# Altium integrated library ON Semi Signal Management Signal Switches.IntLib: 212 symbols (part 2 of 6)
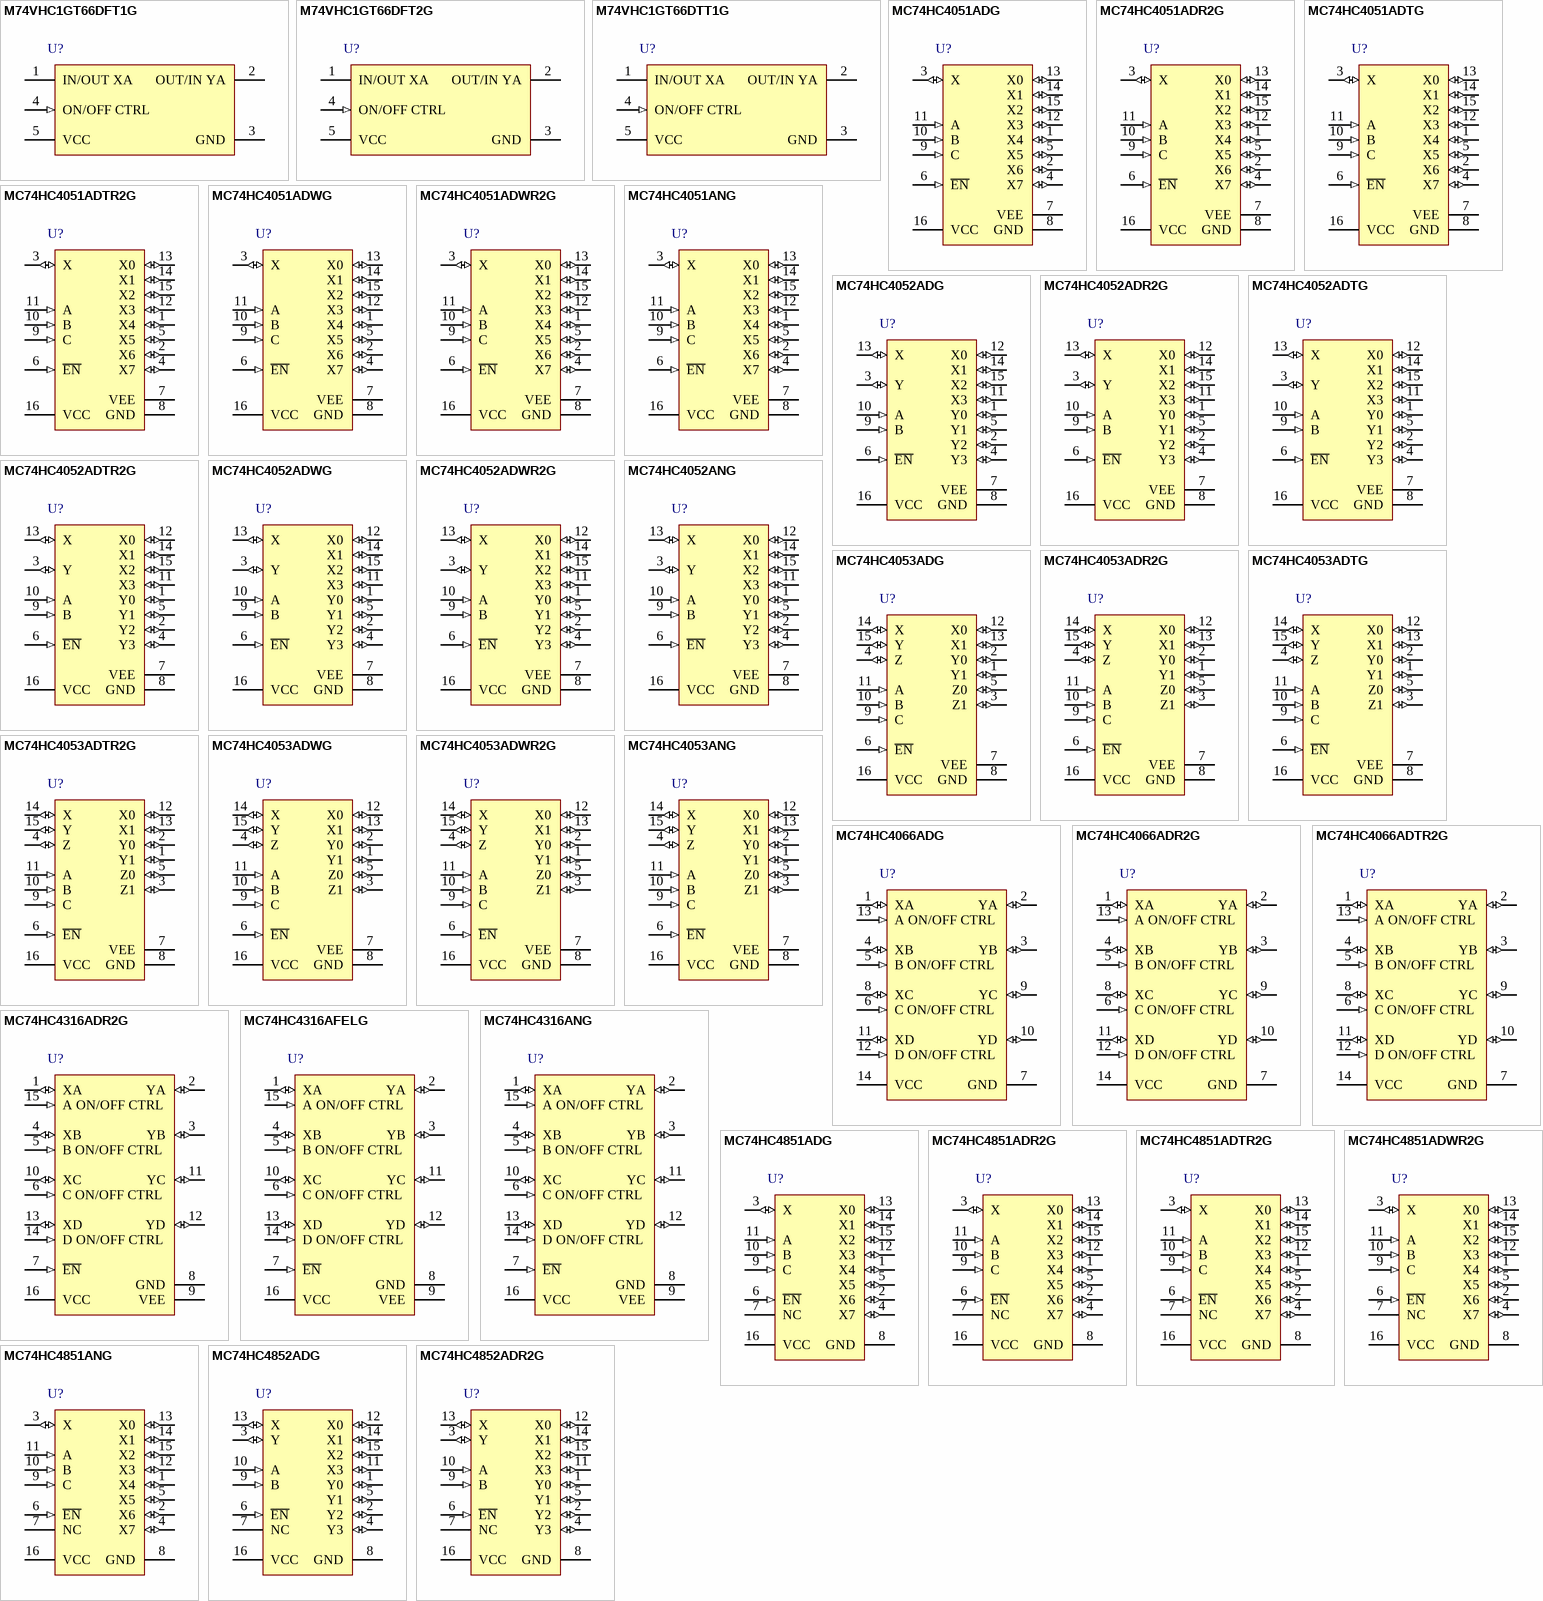
[diagram p7: symbols M74VHC1GT66DFT1G to MC74HC4852ADR2G]

## MC74HC4852ADG
designator U?
Analog Multiplexer / Demultiplexer with Injection Current Effect Control, Automotive Customized, 2 to 6 V, -55 to 125 degC, 16-Pin SOIC, Pb-Free, Tube; Manufacturer: On Semiconductor; PartNumber: MC74HC4852ADG; Icc Max (uA): 40; VCC Max (V): 6; VCC Min (V): 2; DatasheetVersion: Rev. 14; PackageVersion: Rev. K, 12/2006; PackageReference: SOIC-16-751B-05; PackageDescription: 16-Pin Small Outline Integrated Circuit, Body 9.9 x 3.9 mm, Pitch 1.27 mm; Supplier 1: Digi-Key; Supplier Part Number 1: MC74HC4852ADG-ND; Supplier 2: Newark; Supplier Part Number 2: 26K4243; Supplier 3: Mouser; Supplier Part Number 3: 863-MC74HC4852ADG; Packing: Tube; RoHS: TRUE; Mounting Technology: Surface Mount; ComponentLink1Description: Manufacturer URL; ComponentLink1URL: http://www.onsemi.com/; ComponentLink2Description: Datasheet; ComponentLink2URL: http://www.onsemi.com/pub_link/Collateral/MC74HC4851A-D.PDF; ComponentLink3Description: Package Specification; ComponentLink3URL: http://www.onsemi.com/pub_link/Collateral/751B-05.PDF
footprint ONSC-SOIC-16-751B-05_V (SOIC, 16-Leads, Body 10x4mm, Pitch 1.27mm)
pins: 1 Y0 (io), 2 Y2 (io), 3 Y (io), 4 Y3 (io), 5 Y1 (io), 6 ~{EN} (in), 7 NC, 8 GND (power), 9 B (in), 10 A (in), 11 X3 (io), 12 X0 (io), 13 X (io), 14 X1 (io), 15 X2 (io), 16 VCC (power)

## MC74HC4852ADR2G
designator U?
Analog Multiplexer / Demultiplexer with Injection Current Effect Control, Automotive Customized, 2 to 6 V, -55 to 125 degC, 16-Pin SOIC, Pb-Free, Tape and Reel; Manufacturer: On Semiconductor; PartNumber: MC74HC4852ADR2G; Icc Max (uA): 40; VCC Max (V): 6; VCC Min (V): 2; DatasheetVersion: Rev. 14; PackageVersion: Rev. K, 12/2006; PackageReference: SOIC-16-751B-05; PackageDescription: 16-Pin Small Outline Integrated Circuit, Body 9.9 x 3.9 mm, Pitch 1.27 mm; Supplier 1: Digi-Key; Supplier Part Number 1: MC74HC4852ADR2GOSTR-ND; Supplier 2: Digi-Key; Supplier Part Number 2: MC74HC4852ADR2GOSCT-ND; Supplier 3: Digi-Key; Supplier Part Number 3: MC74HC4852ADR2GOSDKR-ND; Supplier 4: Mouser; Supplier Part Number 4: 863-MC74HC4852ADR2G; Packing: Tape and Reel; RoHS: TRUE; Mounting Technology: Surface Mount; ComponentLink1Description: Manufacturer URL; ComponentLink1URL: http://www.onsemi.com/; ComponentLink2Description: Datasheet; ComponentLink2URL: http://www.onsemi.com/pub_link/Collateral/MC74HC4851A-D.PDF; ComponentLink3Description: Package Specification; ComponentLink3URL: http://www.onsemi.com/pub_link/Collateral/751B-05.PDF
footprint ONSC-SOIC-16-751B-05_V (SOIC, 16-Leads, Body 10x4mm, Pitch 1.27mm)
pins: 1 Y0 (io), 2 Y2 (io), 3 Y (io), 4 Y3 (io), 5 Y1 (io), 6 ~{EN} (in), 7 NC, 8 GND (power), 9 B (in), 10 A (in), 11 X3 (io), 12 X0 (io), 13 X (io), 14 X1 (io), 15 X2 (io), 16 VCC (power)

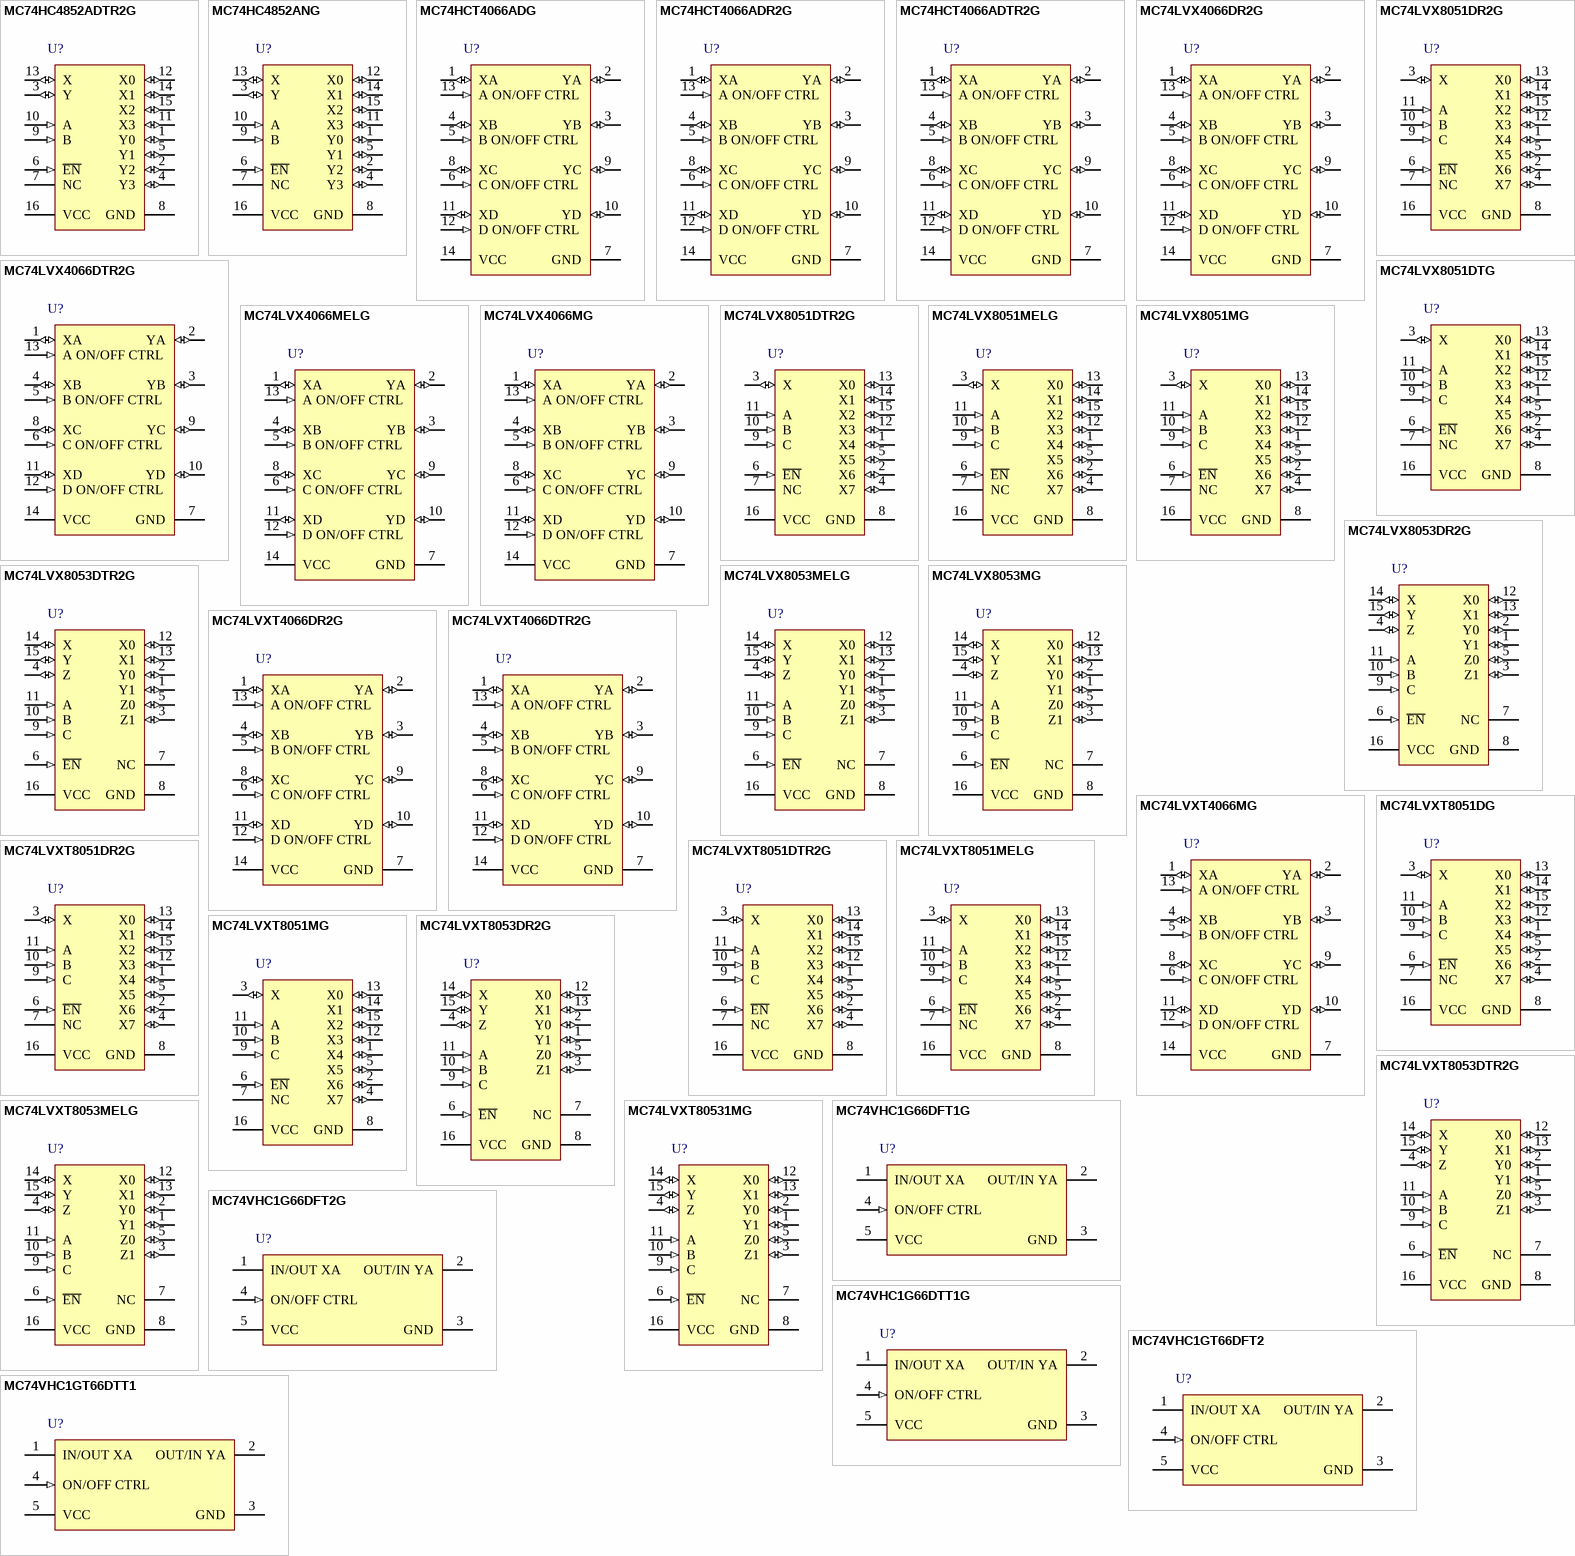
[diagram p1: symbols MC74HC4852ADTR2G to MC74VHC1GT66DTT1]

## MC74HC4852ADTR2G
designator U?
Analog Multiplexer / Demultiplexer with Injection Current Effect Control, Automotive Customized, 2 to 6 V, -55 to 125 degC, 16-Pin TSSOP, Pb-Free, Tape and Reel; Manufacturer: On Semiconductor; PartNumber: MC74HC4852ADTR2G; Icc Max (uA): 40; VCC Max (V): 6; VCC Min (V): 2; DatasheetVersion: Rev. 14; PackageVersion: Rev. B, 10/2006; PackageReference: TSSOP-16-948F-01; PackageDescription: 16-Pin Small Outline Package, Body 5 x 4.4 mm, Pitch 0.65 mm; Supplier 1: Digi-Key; Supplier Part Number 1: MC74HC4852ADTR2GOSTR-ND; Supplier 2: Digi-Key; Supplier Part Number 2: MC74HC4852ADTR2GOSCT-ND; Supplier 3: Mouser; Supplier Part Number 3: 863-MC74HC4852ADTR2G; Packing: Tape and Reel; RoHS: TRUE; Mounting Technology: Surface Mount; ComponentLink1Description: Manufacturer URL; ComponentLink1URL: http://www.onsemi.com/; ComponentLink2Description: Datasheet; ComponentLink2URL: http://www.onsemi.com/pub_link/Collateral/MC74HC4851A-D.PDF; ComponentLink3Description: Package Specification; ComponentLink3URL: http://www.onsemi.com/pub_link/Collateral/948F-01.PDF
footprint ONSC-TSSOP-16-948F-01_V (SOP, 16-Leads, Body 5.1x4.5mm, Pitch 0.65mm)
pins: 1 Y0 (io), 2 Y2 (io), 3 Y (io), 4 Y3 (io), 5 Y1 (io), 6 ~{EN} (in), 7 NC, 8 GND (power), 9 B (in), 10 A (in), 11 X3 (io), 12 X0 (io), 13 X (io), 14 X1 (io), 15 X2 (io), 16 VCC (power)

## MC74HC4852ANG
designator U?
Analog Multiplexer / Demultiplexer with Injection Current Effect Control, Automotive Customized, 2 to 6 V, -55 to 125 degC, 16-Pin PDIP, Pb-Free, Tube; Manufacturer: On Semiconductor; PartNumber: MC74HC4852ANG; Icc Max (uA): 40; VCC Max (V): 6; VCC Min (V): 2; DatasheetVersion: Rev. 14; PackageVersion: Rev. T, 05/2004; PackageReference: PDIP-16-648-08_T; PackageDescription: 16-Pin Plastic Dual-In Line Package, Body 19.175 x 6.6 mm, Pitch 2.54 mm; Supplier 1: Digi-Key; Supplier Part Number 1: MC74HC4852ANG-ND; Supplier 2: Mouser; Supplier Part Number 2: 863-MC74HC4852ANG; Packing: Tube; RoHS: TRUE; Mounting Technology: Through Hole; ComponentLink1Description: Manufacturer URL; ComponentLink1URL: http://www.onsemi.com/; ComponentLink2Description: Datasheet; ComponentLink2URL: http://www.onsemi.com/pub_link/Collateral/MC74HC4851A-D.PDF; ComponentLink3Description: Package Specification; ComponentLink3URL: http://www.onsemi.com/pub_link/Collateral/MC14028B-D.PDF
footprint ONSC-PDIP-16-648-08_T (DIP, 16-Leads, Body 19.55x6.85mm, Pitch 2.54mm)
pins: 1 Y0 (io), 2 Y2 (io), 3 Y (io), 4 Y3 (io), 5 Y1 (io), 6 ~{EN} (in), 7 NC, 8 GND (power), 9 B (in), 10 A (in), 11 X3 (io), 12 X0 (io), 13 X (io), 14 X1 (io), 15 X2 (io), 16 VCC (power)

## MC74HCT4066ADG
designator U?
Quad Analog Switch / Multiplexer / Demultiplexer with LSTTL Compatible Inputs, High-Performance Silicon-Gate CMOS, 4.5 to 5.5 V, -55 to 125 degC, 14-Pin SOIC, Pb-Free, Tube; Manufacturer: On Semiconductor; PartNumber: MC74HCT4066ADG; Icc Max (uA): 40; VCC Max (V): 5.5; VCC Min (V): 4.5; DatasheetVersion: Rev. 1; PackageVersion: Rev. H; PackageReference: SOIC-14-751A-03_H; PackageDescription: 14-Pin Small Outline Integrated Circuit, Body 8.65 x 3.9 mm, Pitch 1.27 mm; Supplier 1: Digi-Key; Supplier Part Number 1: MC74HCT4066ADG-ND; Supplier 2: Mouser; Supplier Part Number 2: 863-MC74HCT4066ADG; Packing: Tube; RoHS: TRUE; Mounting Technology: Surface Mount; ComponentLink1Description: Manufacturer URL; ComponentLink1URL: http://www.onsemi.com/; ComponentLink2Description: Datasheet; ComponentLink2URL: http://www.onsemi.cn/pub_link/Collateral/MC74HCT4066A-D.PDF; ComponentLink3Description: Package Specification; ComponentLink3URL: http://www.onsemi.com/pub_link/Collateral/MC74AC74-D.PDF
footprint ONSC-SOIC-14-751A-03_H_V (SOIC, 14-Leads, Body 8.75x4mm, Pitch 1.27mm)
pins: 1 XA (io), 2 YA (io), 3 YB (io), 4 XB (io), 5 B ON/OFF CTRL (in), 6 C ON/OFF CTRL (in), 7 GND (power), 8 XC (io), 9 YC (io), 10 YD (io), 11 XD (io), 12 D ON/OFF CTRL (in), 13 A ON/OFF CTRL (in), 14 VCC (power)

## MC74HCT4066ADR2G
designator U?
Quad Analog Switch / Multiplexer / Demultiplexer with LSTTL Compatible Inputs, High-Performance Silicon-Gate CMOS, 4.5 to 5.5 V, -55 to 125 degC, 14-Pin SOIC, Pb-Free, Tape and Reel; Manufacturer: On Semiconductor; PartNumber: MC74HCT4066ADR2G; Icc Max (uA): 40; VCC Max (V): 5.5; VCC Min (V): 4.5; DatasheetVersion: Rev. 1; PackageVersion: Rev. H; PackageReference: SOIC-14-751A-03_H; PackageDescription: 14-Pin Small Outline Integrated Circuit, Body 8.65 x 3.9 mm, Pitch 1.27 mm; Supplier 1: Digi-Key; Supplier Part Number 1: MC74HCT4066ADR2G-ND; Supplier 2: Mouser; Supplier Part Number 2: 863-MC74HCT4066ADR2G; Packing: Tape and Reel; RoHS: TRUE; Mounting Technology: Surface Mount; ComponentLink1Description: Manufacturer URL; ComponentLink1URL: http://www.onsemi.com/; ComponentLink2Description: Datasheet; ComponentLink2URL: http://www.onsemi.cn/pub_link/Collateral/MC74HCT4066A-D.PDF; ComponentLink3Description: Package Specification; ComponentLink3URL: http://www.onsemi.com/pub_link/Collateral/MC74AC74-D.PDF
footprint ONSC-SOIC-14-751A-03_H_V (SOIC, 14-Leads, Body 8.75x4mm, Pitch 1.27mm)
pins: 1 XA (io), 2 YA (io), 3 YB (io), 4 XB (io), 5 B ON/OFF CTRL (in), 6 C ON/OFF CTRL (in), 7 GND (power), 8 XC (io), 9 YC (io), 10 YD (io), 11 XD (io), 12 D ON/OFF CTRL (in), 13 A ON/OFF CTRL (in), 14 VCC (power)

## MC74HCT4066ADTR2G
designator U?
Quad Analog Switch / Multiplexer / Demultiplexer with LSTTL Compatible Inputs, High-Performance Silicon-Gate CMOS, 4.5 to 5.5 V, -55 to 125 degC, 14-Pin TSSOP, Pb-Free, Tape and Reel; Manufacturer: On Semiconductor; PartNumber: MC74HCT4066ADTR2G; Icc Max (uA): 40; VCC Max (V): 5.5; VCC Min (V): 4.5; DatasheetVersion: Rev. 1; PackageVersion: Rev. B, 10/2006; PackageReference: TSSOP-14-948G-01; PackageDescription: 14-Pin Small Outline Package, Body 5 x 4.4 mm, Pitch 0.65 mm; Packing: Tape and Reel; RoHS: TRUE; Mounting Technology: Surface Mount; ComponentLink1Description: Manufacturer URL; ComponentLink1URL: http://www.onsemi.com/; ComponentLink2Description: Datasheet; ComponentLink2URL: http://www.onsemi.cn/pub_link/Collateral/MC74HCT4066A-D.PDF; ComponentLink3Description: Package Specification; ComponentLink3URL: http://www.onsemi.com/pub_link/Collateral/948G-01.PDF
footprint ONSC-TSSOP-14-948G-01_V (SOP, 14-Leads, Body 5.1x4.5mm, Pitch 0.65mm)
pins: 1 XA (io), 2 YA (io), 3 YB (io), 4 XB (io), 5 B ON/OFF CTRL (in), 6 C ON/OFF CTRL (in), 7 GND (power), 8 XC (io), 9 YC (io), 10 YD (io), 11 XD (io), 12 D ON/OFF CTRL (in), 13 A ON/OFF CTRL (in), 14 VCC (power)

## MC74LVX4066DR2G
designator U?
Quad Analog Switch / Multiplexer / Demultiplexer, High-Performance Silicon-Gate CMOS, 2 to 6 V, -55 to 85 degC, 14-Pin SOIC, Pb-Free, Tape and Reel; Manufacturer: On Semiconductor; PartNumber: MC74LVX4066DR2G; Icc Max (uA): 160; VCC Max (V): 6; VCC Min (V): 2; DatasheetVersion: Rev. 5; PackageVersion: Rev. H; PackageReference: SOIC-14-751A-03_H; PackageDescription: 14-Pin Small Outline Integrated Circuit, Body 8.65 x 3.9 mm, Pitch 1.27 mm; Supplier 1: Digi-Key; Supplier Part Number 1: MC74LVX4066DR2GOSTR-ND; Supplier 2: Digi-Key; Supplier Part Number 2: MC74LVX4066DR2GOSCT-ND; Supplier 3: Newark; Supplier Part Number 3: 45J1372; Supplier 4: Mouser; Supplier Part Number 4: 863-MC74LVX4066DR2G; Packing: Tape and Reel; RoHS: TRUE; Mounting Technology: Surface Mount; ComponentLink1Description: Manufacturer URL; ComponentLink1URL: http://www.onsemi.com/; ComponentLink2Description: Datasheet; ComponentLink2URL: http://www.onsemi.com/pub_link/Collateral/MC74LVX4066-D.PDF; ComponentLink3Description: Package Specification; ComponentLink3URL: http://www.onsemi.com/pub_link/Collateral/MC74AC74-D.PDF
footprint ONSC-SOIC-14-751A-03_H_V (SOIC, 14-Leads, Body 8.75x4mm, Pitch 1.27mm)
pins: 1 XA (io), 2 YA (io), 3 YB (io), 4 XB (io), 5 B ON/OFF CTRL (in), 6 C ON/OFF CTRL (in), 7 GND (power), 8 XC (io), 9 YC (io), 10 YD (io), 11 XD (io), 12 D ON/OFF CTRL (in), 13 A ON/OFF CTRL (in), 14 VCC (power)

## MC74LVX4066DTR2G
designator U?
Quad Analog Switch / Multiplexer / Demultiplexer, High-Performance Silicon-Gate CMOS, 2 to 6 V, -55 to 85 degC, 14-Pin TSSOP, Pb-Free, Tape and Reel; Manufacturer: On Semiconductor; PartNumber: MC74LVX4066DTR2G; Icc Max (uA): 160; VCC Max (V): 6; VCC Min (V): 2; DatasheetVersion: Rev. 5; PackageVersion: Rev. B, 10/2006; PackageReference: TSSOP-14-948G-01; PackageDescription: 14-Pin Small Outline Package, Body 5 x 4.4 mm, Pitch 0.65 mm; Supplier 1: Digi-Key; Supplier Part Number 1: MC74LVX4066DTR2GOSTR-ND; Supplier 2: Digi-Key; Supplier Part Number 2: MC74LVX4066DTR2GOSCT-ND; Supplier 3: Newark; Supplier Part Number 3: 42K1041; Supplier 4: Mouser; Supplier Part Number 4: 863-MC74LVX4066DTR2G; Packing: Tape and Reel; RoHS: TRUE; Mounting Technology: Surface Mount; ComponentLink1Description: Manufacturer URL; ComponentLink1URL: http://www.onsemi.com/; ComponentLink2Description: Datasheet; ComponentLink2URL: http://www.onsemi.com/pub_link/Collateral/MC74LVX4066-D.PDF; ComponentLink3Description: Package Specification; ComponentLink3URL: http://www.onsemi.com/pub_link/Collateral/948G-01.PDF
footprint ONSC-TSSOP-14-948G-01_V (SOP, 14-Leads, Body 5.1x4.5mm, Pitch 0.65mm)
pins: 1 XA (io), 2 YA (io), 3 YB (io), 4 XB (io), 5 B ON/OFF CTRL (in), 6 C ON/OFF CTRL (in), 7 GND (power), 8 XC (io), 9 YC (io), 10 YD (io), 11 XD (io), 12 D ON/OFF CTRL (in), 13 A ON/OFF CTRL (in), 14 VCC (power)

## MC74LVX4066MELG
designator U?
Quad Analog Switch / Multiplexer / Demultiplexer, High-Performance Silicon-Gate CMOS, 2 to 6 V, -55 to 85 degC, 14-Pin SOEIAJ, Pb-Free, Tape and Reel; Manufacturer: On Semiconductor; PartNumber: MC74LVX4066MELG; Icc Max (uA): 160; VCC Max (V): 6; VCC Min (V): 2; DatasheetVersion: Rev. 5; PackageVersion: Rev. B, 02/2008; PackageReference: SOEIAJ-14-965-01; PackageDescription: 14-Pin Small Outline Integrated Circuit, Body 10.2 x 5.275 mm, Pitch 1.27 mm; Supplier 1: Digi-Key; Supplier Part Number 1: MC74LVX4066MELGOSTR-ND; Supplier 2: Digi-Key; Supplier Part Number 2: MC74LVX4066MELGOSCT-ND; Supplier 3: Mouser; Supplier Part Number 3: 863-MC74LVX4066MELG; Packing: Tape and Reel; RoHS: TRUE; Mounting Technology: Surface Mount; ComponentLink1Description: Manufacturer URL; ComponentLink1URL: http://www.onsemi.com/; ComponentLink2Description: Datasheet; ComponentLink2URL: http://www.onsemi.com/pub_link/Collateral/MC74LVX4066-D.PDF; ComponentLink3Description: Package Specification; ComponentLink3URL: http://www.onsemi.com/pub_link/Collateral/965-01.PDF
footprint ONSC-SOEIAJ-14-965-01_N (SOIC, 14-Leads, Body 10.5x5.45mm, Pitch 1.27mm, IPC Medium Density)
footprint ONSC-SOEIAJ-14-965-01_L (SOIC, 14-Leads, Body 10.5x5.45mm, Pitch 1.27mm, IPC High Density)
footprint ONSC-SOEIAJ-14-965-01_M (SOIC, 14-Leads, Body 10.5x5.45mm, Pitch 1.27mm, IPC Low Density)
pins: 1 XA (io), 2 YA (io), 3 YB (io), 4 XB (io), 5 B ON/OFF CTRL (in), 6 C ON/OFF CTRL (in), 7 GND (power), 8 XC (io), 9 YC (io), 10 YD (io), 11 XD (io), 12 D ON/OFF CTRL (in), 13 A ON/OFF CTRL (in), 14 VCC (power)

## MC74LVX4066MG
designator U?
Quad Analog Switch / Multiplexer / Demultiplexer, High-Performance Silicon-Gate CMOS, 2 to 6 V, -55 to 85 degC, 14-Pin SOEIAJ, Pb-Free, Tube; Manufacturer: On Semiconductor; PartNumber: MC74LVX4066MG; Icc Max (uA): 160; VCC Max (V): 6; VCC Min (V): 2; DatasheetVersion: Rev. 5; PackageVersion: Rev. B, 02/2008; PackageReference: SOEIAJ-14-965-01; PackageDescription: 14-Pin Small Outline Integrated Circuit, Body 10.2 x 5.275 mm, Pitch 1.27 mm; Supplier 1: Digi-Key; Supplier Part Number 1: MC74LVX4066MG-ND; Supplier 2: Mouser; Supplier Part Number 2: 863-MC74LVX4066MG; Packing: Tube; RoHS: TRUE; Mounting Technology: Surface Mount; ComponentLink1Description: Manufacturer URL; ComponentLink1URL: http://www.onsemi.com/; ComponentLink2Description: Datasheet; ComponentLink2URL: http://www.onsemi.com/pub_link/Collateral/MC74LVX4066-D.PDF; ComponentLink3Description: Package Specification; ComponentLink3URL: http://www.onsemi.com/pub_link/Collateral/965-01.PDF
footprint ONSC-SOEIAJ-14-965-01_N (SOIC, 14-Leads, Body 10.5x5.45mm, Pitch 1.27mm, IPC Medium Density)
footprint ONSC-SOEIAJ-14-965-01_L (SOIC, 14-Leads, Body 10.5x5.45mm, Pitch 1.27mm, IPC High Density)
footprint ONSC-SOEIAJ-14-965-01_M (SOIC, 14-Leads, Body 10.5x5.45mm, Pitch 1.27mm, IPC Low Density)
pins: 1 XA (io), 2 YA (io), 3 YB (io), 4 XB (io), 5 B ON/OFF CTRL (in), 6 C ON/OFF CTRL (in), 7 GND (power), 8 XC (io), 9 YC (io), 10 YD (io), 11 XD (io), 12 D ON/OFF CTRL (in), 13 A ON/OFF CTRL (in), 14 VCC (power)

## MC74LVX8051DR2G
designator U?
Analog Multiplexer / Demultiplexer, High-Performance Silicon-Gate CMOS, 2.5 to 6 V, -55 to 85 degC, 16-Pin SOIC, Pb-Free, Tape and Reel; Manufacturer: On Semiconductor; PartNumber: MC74LVX8051DR2G; Icc Max (uA): 160; VCC Max (V): 6; VCC Min (V): 2.5; DatasheetVersion: Rev. 5; PackageVersion: Rev. K, 12/2006; PackageReference: SOIC-16-751B-05; PackageDescription: 16-Pin Small Outline Integrated Circuit, Body 9.9 x 3.9 mm, Pitch 1.27 mm; Supplier 1: Digi-Key; Supplier Part Number 1: MC74LVX8051DR2G-ND; Supplier 2: Mouser; Supplier Part Number 2: 863-MC74LVX8051DR2G; Packing: Tape and Reel; RoHS: TRUE; Mounting Technology: Surface Mount; ComponentLink1Description: Manufacturer URL; ComponentLink1URL: http://www.onsemi.com/; ComponentLink2Description: Datasheet; ComponentLink2URL: http://www.onsemi.com/pub_link/Collateral/MC74LVX8051-D.PDF; ComponentLink3Description: Package Specification; ComponentLink3URL: http://www.onsemi.com/pub_link/Collateral/751B-05.PDF
footprint ONSC-SOIC-16-751B-05_V (SOIC, 16-Leads, Body 10x4mm, Pitch 1.27mm)
pins: 1 X4 (io), 2 X6 (io), 3 X (io), 4 X7 (io), 5 X5 (io), 6 ~{EN} (in), 7 NC, 8 GND (power), 9 C (in), 10 B (in), 11 A (in), 12 X3 (io), 13 X0 (io), 14 X1 (io), 15 X2 (io), 16 VCC (power)

## MC74LVX8051DTG
designator U?
Analog Multiplexer / Demultiplexer, High-Performance Silicon-Gate CMOS, 2.5 to 6 V, -55 to 85 degC, 16-Pin TSSOP, Pb-Free, Tube; Manufacturer: On Semiconductor; PartNumber: MC74LVX8051DTG; Icc Max (uA): 160; VCC Max (V): 6; VCC Min (V): 2.5; DatasheetVersion: Rev. 5; PackageVersion: Rev. B, 10/2006; PackageReference: TSSOP-16-948F-01; PackageDescription: 16-Pin Small Outline Package, Body 5 x 4.4 mm, Pitch 0.65 mm; Supplier 1: Digi-Key; Supplier Part Number 1: MC74LVX8051DTG-ND; Supplier 2: Mouser; Supplier Part Number 2: 863-MC74LVX8051DTG; Packing: Tube; RoHS: TRUE; Mounting Technology: Surface Mount; ComponentLink1Description: Manufacturer URL; ComponentLink1URL: http://www.onsemi.com/; ComponentLink2Description: Datasheet; ComponentLink2URL: http://www.onsemi.com/pub_link/Collateral/MC74LVX8051-D.PDF; ComponentLink3Description: Package Specification; ComponentLink3URL: http://www.onsemi.com/pub_link/Collateral/948F-01.PDF
footprint ONSC-TSSOP-16-948F-01_V (SOP, 16-Leads, Body 5.1x4.5mm, Pitch 0.65mm)
pins: 1 X4 (io), 2 X6 (io), 3 X (io), 4 X7 (io), 5 X5 (io), 6 ~{EN} (in), 7 NC, 8 GND (power), 9 C (in), 10 B (in), 11 A (in), 12 X3 (io), 13 X0 (io), 14 X1 (io), 15 X2 (io), 16 VCC (power)

## MC74LVX8051DTR2G
designator U?
Analog Multiplexer / Demultiplexer, High-Performance Silicon-Gate CMOS, 2.5 to 6 V, -55 to 85 degC, 16-Pin TSSOP, Pb-Free, Tape and Reel; Manufacturer: On Semiconductor; PartNumber: MC74LVX8051DTR2G; Icc Max (uA): 160; VCC Max (V): 6; VCC Min (V): 2.5; DatasheetVersion: Rev. 5; PackageVersion: Rev. B, 10/2006; PackageReference: TSSOP-16-948F-01; PackageDescription: 16-Pin Small Outline Package, Body 5 x 4.4 mm, Pitch 0.65 mm; Supplier 1: Digi-Key; Supplier Part Number 1: MC74LVX8051DTR2G-ND; Supplier 2: Mouser; Supplier Part Number 2: 863-MC74LVX8051DTR2G; Packing: Tape and Reel; RoHS: TRUE; Mounting Technology: Surface Mount; ComponentLink1Description: Manufacturer URL; ComponentLink1URL: http://www.onsemi.com/; ComponentLink2Description: Datasheet; ComponentLink2URL: http://www.onsemi.com/pub_link/Collateral/MC74LVX8051-D.PDF; ComponentLink3Description: Package Specification; ComponentLink3URL: http://www.onsemi.com/pub_link/Collateral/948F-01.PDF
footprint ONSC-TSSOP-16-948F-01_V (SOP, 16-Leads, Body 5.1x4.5mm, Pitch 0.65mm)
pins: 1 X4 (io), 2 X6 (io), 3 X (io), 4 X7 (io), 5 X5 (io), 6 ~{EN} (in), 7 NC, 8 GND (power), 9 C (in), 10 B (in), 11 A (in), 12 X3 (io), 13 X0 (io), 14 X1 (io), 15 X2 (io), 16 VCC (power)

## MC74LVX8051MELG
designator U?
Analog Multiplexer / Demultiplexer, High-Performance Silicon-Gate CMOS, 2.5 to 6 V, -55 to 85 degC, 16-Pin SOEIAJ, Pb-Free, Tape and Reel; Manufacturer: On Semiconductor; PartNumber: MC74LVX8051MELG; Icc Max (uA): 160; VCC Max (V): 6; VCC Min (V): 2.5; DatasheetVersion: Rev. 5; PackageVersion: Rev. A, 10/2005; PackageReference: SOEIAJ-16-966-01; PackageDescription: 16-Pin Small Outline Integrated Circuit, Body 10.2 x 5.275 mm, Pitch 1.27 mm; Supplier 1: Digi-Key; Supplier Part Number 1: MC74LVX8051MELG-ND; Supplier 2: Mouser; Supplier Part Number 2: 863-MC74LVX8051MELG; Packing: Tape and Reel; RoHS: TRUE; Mounting Technology: Surface Mount; ComponentLink1Description: Manufacturer URL; ComponentLink1URL: http://www.onsemi.com/; ComponentLink2Description: Datasheet; ComponentLink2URL: http://www.onsemi.com/pub_link/Collateral/MC74LVX8051-D.PDF; ComponentLink3Description: Package Specification; ComponentLink3URL: http://www.onsemi.cn/pub_link/Collateral/966-01.PDF
footprint ONSC-SOEIAJ-16-966-01_N (SOIC, 16-Leads, Body 10.5x5.45mm, Pitch 1.27mm, IPC Medium Density)
footprint ONSC-SOEIAJ-16-966-01_L (SOIC, 16-Leads, Body 10.5x5.45mm, Pitch 1.27mm, IPC High Density)
footprint ONSC-SOEIAJ-16-966-01_M (SOIC, 16-Leads, Body 10.5x5.45mm, Pitch 1.27mm, IPC Low Density)
pins: 1 X4 (io), 2 X6 (io), 3 X (io), 4 X7 (io), 5 X5 (io), 6 ~{EN} (in), 7 NC, 8 GND (power), 9 C (in), 10 B (in), 11 A (in), 12 X3 (io), 13 X0 (io), 14 X1 (io), 15 X2 (io), 16 VCC (power)

## MC74LVX8051MG
designator U?
Analog Multiplexer / Demultiplexer, High-Performance Silicon-Gate CMOS, 2.5 to 6 V, -55 to 85 degC, 16-Pin SOEIAJ, Pb-Free, Tube; Manufacturer: On Semiconductor; PartNumber: MC74LVX8051MG; Icc Max (uA): 160; VCC Max (V): 6; VCC Min (V): 2.5; DatasheetVersion: Rev. 5; PackageVersion: Rev. A, 10/2005; PackageReference: SOEIAJ-16-966-01; PackageDescription: 16-Pin Small Outline Integrated Circuit, Body 10.2 x 5.275 mm, Pitch 1.27 mm; Supplier 1: Digi-Key; Supplier Part Number 1: MC74LVX8051MG-ND; Supplier 2: Mouser; Supplier Part Number 2: 863-MC74LVX8051MG; Packing: Tube; RoHS: TRUE; Mounting Technology: Surface Mount; ComponentLink1Description: Manufacturer URL; ComponentLink1URL: http://www.onsemi.com/; ComponentLink2Description: Datasheet; ComponentLink2URL: http://www.onsemi.com/pub_link/Collateral/MC74LVX8051-D.PDF; ComponentLink3Description: Package Specification; ComponentLink3URL: http://www.onsemi.cn/pub_link/Collateral/966-01.PDF
footprint ONSC-SOEIAJ-16-966-01_N (SOIC, 16-Leads, Body 10.5x5.45mm, Pitch 1.27mm, IPC Medium Density)
footprint ONSC-SOEIAJ-16-966-01_L (SOIC, 16-Leads, Body 10.5x5.45mm, Pitch 1.27mm, IPC High Density)
footprint ONSC-SOEIAJ-16-966-01_M (SOIC, 16-Leads, Body 10.5x5.45mm, Pitch 1.27mm, IPC Low Density)
pins: 1 X4 (io), 2 X6 (io), 3 X (io), 4 X7 (io), 5 X5 (io), 6 ~{EN} (in), 7 NC, 8 GND (power), 9 C (in), 10 B (in), 11 A (in), 12 X3 (io), 13 X0 (io), 14 X1 (io), 15 X2 (io), 16 VCC (power)

## MC74LVX8053DR2G
designator U?
Analog Multiplexer / Demultiplexer, High-Performance Silicon-Gate CMOS, 2.5 to 6 V, -55 to 85 degC, 16-Pin SOIC, Pb-Free, Tape and Reel; Manufacturer: On Semiconductor; PartNumber: MC74LVX8053DR2G; Icc Max (uA): 160; VCC Max (V): 6; VCC Min (V): 2.5; DatasheetVersion: Rev. 5; PackageVersion: Rev. K, 12/2006; PackageReference: SOIC-16-751B-05; PackageDescription: 16-Pin Small Outline Integrated Circuit, Body 9.9 x 3.9 mm, Pitch 1.27 mm; Supplier 1: Digi-Key; Supplier Part Number 1: MC74LVX8053DR2GOSTR-ND; Supplier 2: Digi-Key; Supplier Part Number 2: MC74LVX8053DR2GOSCT-ND; Supplier 3: Mouser; Supplier Part Number 3: 863-MC74LVX8053DR2G; Packing: Tape and Reel; RoHS: TRUE; Mounting Technology: Surface Mount; ComponentLink1Description: Manufacturer URL; ComponentLink1URL: http://www.onsemi.com/; ComponentLink2Description: Datasheet; ComponentLink2URL: http://www.onsemi.com/pub_link/Collateral/MC74LVX8053-D.PDF; ComponentLink3Description: Package Specification; ComponentLink3URL: http://www.onsemi.com/pub_link/Collateral/751B-05.PDF
footprint ONSC-SOIC-16-751B-05_V (SOIC, 16-Leads, Body 10x4mm, Pitch 1.27mm)
pins: 1 Y1 (io), 2 Y0 (io), 3 Z1 (io), 4 Z (io), 5 Z0 (io), 6 ~{EN} (in), 7 NC, 8 GND (power), 9 C (in), 10 B (in), 11 A (in), 12 X0 (io), 13 X1 (io), 14 X (io), 15 Y (io), 16 VCC (power)

## MC74LVX8053DTR2G
designator U?
Analog Multiplexer / Demultiplexer, High-Performance Silicon-Gate CMOS, 2.5 to 6 V, -55 to 85 degC, 16-Pin TSSOP, Pb-Free, Tape and Reel; Manufacturer: On Semiconductor; PartNumber: MC74LVX8053DTR2G; Icc Max (uA): 160; VCC Max (V): 6; VCC Min (V): 2.5; DatasheetVersion: Rev. 5; PackageVersion: Rev. B, 10/2006; PackageReference: TSSOP-16-948F-01; PackageDescription: 16-Pin Small Outline Package, Body 5 x 4.4 mm, Pitch 0.65 mm; Supplier 1: Digi-Key; Supplier Part Number 1: MC74LVX8053DTR2GOSTR-ND; Supplier 2: Digi-Key; Supplier Part Number 2: MC74LVX8053DTR2GOSCT-ND; Supplier 3: Mouser; Supplier Part Number 3: 863-MC74LVX8053DTR2G; Packing: Tape and Reel; RoHS: TRUE; Mounting Technology: Surface Mount; ComponentLink1Description: Manufacturer URL; ComponentLink1URL: http://www.onsemi.com/; ComponentLink2Description: Datasheet; ComponentLink2URL: http://www.onsemi.com/pub_link/Collateral/MC74LVX8053-D.PDF; ComponentLink3Description: Package Specification; ComponentLink3URL: http://www.onsemi.com/pub_link/Collateral/948F-01.PDF
footprint ONSC-TSSOP-16-948F-01_V (SOP, 16-Leads, Body 5.1x4.5mm, Pitch 0.65mm)
pins: 1 Y1 (io), 2 Y0 (io), 3 Z1 (io), 4 Z (io), 5 Z0 (io), 6 ~{EN} (in), 7 NC, 8 GND (power), 9 C (in), 10 B (in), 11 A (in), 12 X0 (io), 13 X1 (io), 14 X (io), 15 Y (io), 16 VCC (power)

## MC74LVX8053MELG
designator U?
Analog Multiplexer / Demultiplexer, High-Performance Silicon-Gate CMOS, 2.5 to 6 V, -55 to 85 degC, 16-Pin SOEIAJ, Pb-Free, Tape and Reel; Manufacturer: On Semiconductor; PartNumber: MC74LVX8053MELG; Icc Max (uA): 160; VCC Max (V): 6; VCC Min (V): 2.5; DatasheetVersion: Rev. 5; PackageVersion: Rev. A, 10/2005; PackageReference: SOEIAJ-16-966-01; PackageDescription: 16-Pin Small Outline Integrated Circuit, Body 10.2 x 5.275 mm, Pitch 1.27 mm; Supplier 1: Digi-Key; Supplier Part Number 1: MC74LVX8053MELGOSTR-ND; Supplier 2: Digi-Key; Supplier Part Number 2: MC74LVX8053MELGOSCT-ND; Supplier 3: Mouser; Supplier Part Number 3: 863-MC74LVX8053MELG; Packing: Tape and Reel; RoHS: TRUE; Mounting Technology: Surface Mount; ComponentLink1Description: Manufacturer URL; ComponentLink1URL: http://www.onsemi.com/; ComponentLink2Description: Datasheet; ComponentLink2URL: http://www.onsemi.com/pub_link/Collateral/MC74LVX8053-D.PDF; ComponentLink3Description: Package Specification; ComponentLink3URL: http://www.onsemi.cn/pub_link/Collateral/966-01.PDF
footprint ONSC-SOEIAJ-16-966-01_N (SOIC, 16-Leads, Body 10.5x5.45mm, Pitch 1.27mm, IPC Medium Density)
footprint ONSC-SOEIAJ-16-966-01_L (SOIC, 16-Leads, Body 10.5x5.45mm, Pitch 1.27mm, IPC High Density)
footprint ONSC-SOEIAJ-16-966-01_M (SOIC, 16-Leads, Body 10.5x5.45mm, Pitch 1.27mm, IPC Low Density)
pins: 1 Y1 (io), 2 Y0 (io), 3 Z1 (io), 4 Z (io), 5 Z0 (io), 6 ~{EN} (in), 7 NC, 8 GND (power), 9 C (in), 10 B (in), 11 A (in), 12 X0 (io), 13 X1 (io), 14 X (io), 15 Y (io), 16 VCC (power)

## MC74LVX8053MG
designator U?
Analog Multiplexer / Demultiplexer, High-Performance Silicon-Gate CMOS, 2.5 to 6 V, -55 to 85 degC, 16-Pin SOEIAJ, Pb-Free, Tube; Manufacturer: On Semiconductor; PartNumber: MC74LVX8053MG; Icc Max (uA): 160; VCC Max (V): 6; VCC Min (V): 2.5; DatasheetVersion: Rev. 5; PackageVersion: Rev. A, 10/2005; PackageReference: SOEIAJ-16-966-01; PackageDescription: 16-Pin Small Outline Integrated Circuit, Body 10.2 x 5.275 mm, Pitch 1.27 mm; Supplier 1: Digi-Key; Supplier Part Number 1: MC74LVX8053MG-ND; Supplier 2: Mouser; Supplier Part Number 2: 863-MC74LVX8053MG; Packing: Tube; RoHS: TRUE; Mounting Technology: Surface Mount; ComponentLink1Description: Manufacturer URL; ComponentLink1URL: http://www.onsemi.com/; ComponentLink2Description: Datasheet; ComponentLink2URL: http://www.onsemi.com/pub_link/Collateral/MC74LVX8053-D.PDF; ComponentLink3Description: Package Specification; ComponentLink3URL: http://www.onsemi.cn/pub_link/Collateral/966-01.PDF
footprint ONSC-SOEIAJ-16-966-01_N (SOIC, 16-Leads, Body 10.5x5.45mm, Pitch 1.27mm, IPC Medium Density)
footprint ONSC-SOEIAJ-16-966-01_L (SOIC, 16-Leads, Body 10.5x5.45mm, Pitch 1.27mm, IPC High Density)
footprint ONSC-SOEIAJ-16-966-01_M (SOIC, 16-Leads, Body 10.5x5.45mm, Pitch 1.27mm, IPC Low Density)
pins: 1 Y1 (io), 2 Y0 (io), 3 Z1 (io), 4 Z (io), 5 Z0 (io), 6 ~{EN} (in), 7 NC, 8 GND (power), 9 C (in), 10 B (in), 11 A (in), 12 X0 (io), 13 X1 (io), 14 X (io), 15 Y (io), 16 VCC (power)

## MC74LVXT4066DR2G
designator U?
Quad Analog Switch / Multiplexer / Demultiplexer, High-Performance Silicon-Gate CMOS, 2 to 5.5 V, -55 to 85 degC, 14-Pin SOIC, Pb-Free, Tape and Reel; Manufacturer: On Semiconductor; PartNumber: MC74LVXT4066DR2G; Icc Max (uA): 160; VCC Max (V): 5.5; VCC Min (V): 2; DatasheetVersion: Rev. 3; PackageVersion: Rev. H; PackageReference: SOIC-14-751A-03_H; PackageDescription: 14-Pin Small Outline Integrated Circuit, Body 8.65 x 3.9 mm, Pitch 1.27 mm; Supplier 1: Digi-Key; Supplier Part Number 1: MC74LVXT4066DR2GOSTR-ND; Supplier 2: Digi-Key; Supplier Part Number 2: MC74LVXT4066DR2GOSCT-ND; Supplier 3: Digi-Key; Supplier Part Number 3: MC74LVXT4066DR2GOSDKR-ND; Supplier 4: Mouser; Supplier Part Number 4: 863-MC74LVXT4066DR2G; Packing: Tape and Reel; RoHS: TRUE; Mounting Technology: Surface Mount; ComponentLink1Description: Manufacturer URL; ComponentLink1URL: http://www.onsemi.com/; ComponentLink2Description: Datasheet; ComponentLink2URL: http://www.onsemi.com/pub_link/Collateral/MC74LVXT4066-D.PDF; ComponentLink3Description: Package Specification; ComponentLink3URL: http://www.onsemi.com/pub_link/Collateral/MC74AC74-D.PDF
footprint ONSC-SOIC-14-751A-03_H_V (SOIC, 14-Leads, Body 8.75x4mm, Pitch 1.27mm)
pins: 1 XA (io), 2 YA (io), 3 YB (io), 4 XB (io), 5 B ON/OFF CTRL (in), 6 C ON/OFF CTRL (in), 7 GND (power), 8 XC (io), 9 YC (io), 10 YD (io), 11 XD (io), 12 D ON/OFF CTRL (in), 13 A ON/OFF CTRL (in), 14 VCC (power)

## MC74LVXT4066DTR2G
designator U?
Quad Analog Switch / Multiplexer / Demultiplexer, High-Performance Silicon-Gate CMOS, 2 to 5.5 V, -55 to 85 degC, 14-Pin TSSOP, Pb-Free, Tape and Reel; Manufacturer: On Semiconductor; PartNumber: MC74LVXT4066DTR2G; Icc Max (uA): 160; VCC Max (V): 5.5; VCC Min (V): 2; DatasheetVersion: Rev. 3; PackageVersion: Rev. B, 10/2006; PackageReference: TSSOP-14-948G-01; PackageDescription: 14-Pin Small Outline Package, Body 5 x 4.4 mm, Pitch 0.65 mm; Packing: Tape and Reel; RoHS: TRUE; Mounting Technology: Surface Mount; ComponentLink1Description: Manufacturer URL; ComponentLink1URL: http://www.onsemi.com/; ComponentLink2Description: Datasheet; ComponentLink2URL: http://www.onsemi.com/pub_link/Collateral/MC74LVXT4066-D.PDF; ComponentLink3Description: Package Specification; ComponentLink3URL: http://www.onsemi.com/pub_link/Collateral/948G-01.PDF
footprint ONSC-TSSOP-14-948G-01_V (SOP, 14-Leads, Body 5.1x4.5mm, Pitch 0.65mm)
pins: 1 XA (io), 2 YA (io), 3 YB (io), 4 XB (io), 5 B ON/OFF CTRL (in), 6 C ON/OFF CTRL (in), 7 GND (power), 8 XC (io), 9 YC (io), 10 YD (io), 11 XD (io), 12 D ON/OFF CTRL (in), 13 A ON/OFF CTRL (in), 14 VCC (power)

## MC74LVXT4066MG
designator U?
Quad Analog Switch / Multiplexer / Demultiplexer, High-Performance Silicon-Gate CMOS, 2 to 5.5 V, -55 to 85 degC, 14-Pin SOEIAJ, Pb-Free, Tube; Manufacturer: On Semiconductor; PartNumber: MC74LVXT4066MG; Icc Max (uA): 160; VCC Max (V): 5.5; VCC Min (V): 2; DatasheetVersion: Rev. 3; PackageVersion: Rev. B, 02/2008; PackageReference: SOEIAJ-14-965-01; PackageDescription: 14-Pin Small Outline Integrated Circuit, Body 10.2 x 5.275 mm, Pitch 1.27 mm; Supplier 1: Digi-Key; Supplier Part Number 1: MC74LVXT4066MG-ND; Supplier 2: Mouser; Supplier Part Number 2: 863-MC74LVXT4066MG; Packing: Tube; RoHS: TRUE; Mounting Technology: Surface Mount; ComponentLink1Description: Manufacturer URL; ComponentLink1URL: http://www.onsemi.com/; ComponentLink2Description: Datasheet; ComponentLink2URL: http://www.onsemi.com/pub_link/Collateral/MC74LVXT4066-D.PDF; ComponentLink3Description: Package Specification; ComponentLink3URL: http://www.onsemi.com/pub_link/Collateral/965-01.PDF
footprint ONSC-SOEIAJ-14-965-01_N (SOIC, 14-Leads, Body 10.5x5.45mm, Pitch 1.27mm, IPC Medium Density)
footprint ONSC-SOEIAJ-14-965-01_L (SOIC, 14-Leads, Body 10.5x5.45mm, Pitch 1.27mm, IPC High Density)
footprint ONSC-SOEIAJ-14-965-01_M (SOIC, 14-Leads, Body 10.5x5.45mm, Pitch 1.27mm, IPC Low Density)
pins: 1 XA (io), 2 YA (io), 3 YB (io), 4 XB (io), 5 B ON/OFF CTRL (in), 6 C ON/OFF CTRL (in), 7 GND (power), 8 XC (io), 9 YC (io), 10 YD (io), 11 XD (io), 12 D ON/OFF CTRL (in), 13 A ON/OFF CTRL (in), 14 VCC (power)

## MC74LVXT8051DG
designator U?
Analog Multiplexer / Demultiplexer, High-Performance Silicon-Gate CMOS, 2 to 6 V, -55 to 85 degC, 16-Pin SOIC, Pb-Free, Tube; Manufacturer: On Semiconductor; PartNumber: MC74LVXT8051DG; Icc Max (uA): 160; VCC Max (V): 6; VCC Min (V): 2; DatasheetVersion: Rev. 4; PackageVersion: Rev. K, 12/2006; PackageReference: SOIC-16-751B-05; PackageDescription: 16-Pin Small Outline Integrated Circuit, Body 9.9 x 3.9 mm, Pitch 1.27 mm; Supplier 1: Digi-Key; Supplier Part Number 1: MC74LVXT8051DG-ND; Supplier 2: Newark; Supplier Part Number 2: 26K4270; Supplier 3: Mouser; Supplier Part Number 3: 863-MC74LVXT8051DG; Packing: Tube; RoHS: TRUE; Mounting Technology: Surface Mount; ComponentLink1Description: Manufacturer URL; ComponentLink1URL: http://www.onsemi.com/; ComponentLink2Description: Datasheet; ComponentLink2URL: http://www.onsemi.com/pub_link/Collateral/MC74LVXT8051-D.PDF; ComponentLink3Description: Package Specification; ComponentLink3URL: http://www.onsemi.com/pub_link/Collateral/751B-05.PDF
footprint ONSC-SOIC-16-751B-05_V (SOIC, 16-Leads, Body 10x4mm, Pitch 1.27mm)
pins: 1 X4 (io), 2 X6 (io), 3 X (io), 4 X7 (io), 5 X5 (io), 6 ~{EN} (in), 7 NC, 8 GND (power), 9 C (in), 10 B (in), 11 A (in), 12 X3 (io), 13 X0 (io), 14 X1 (io), 15 X2 (io), 16 VCC (power)

## MC74LVXT8051DR2G
designator U?
Analog Multiplexer / Demultiplexer, High-Performance Silicon-Gate CMOS, 2 to 6 V, -55 to 85 degC, 16-Pin SOIC, Pb-Free, Tape and Reel; Manufacturer: On Semiconductor; PartNumber: MC74LVXT8051DR2G; Icc Max (uA): 160; VCC Max (V): 6; VCC Min (V): 2; DatasheetVersion: Rev. 4; PackageVersion: Rev. K, 12/2006; PackageReference: SOIC-16-751B-05; PackageDescription: 16-Pin Small Outline Integrated Circuit, Body 9.9 x 3.9 mm, Pitch 1.27 mm; Supplier 1: Digi-Key; Supplier Part Number 1: MC74LVXT8051DR2GOSTR-ND; Supplier 2: Digi-Key; Supplier Part Number 2: MC74LVXT8051DR2GOSCT-ND; Supplier 3: Mouser; Supplier Part Number 3: 863-MC74LVXT8051DR2G; Packing: Tape and Reel; RoHS: TRUE; Mounting Technology: Surface Mount; ComponentLink1Description: Manufacturer URL; ComponentLink1URL: http://www.onsemi.com/; ComponentLink2Description: Datasheet; ComponentLink2URL: http://www.onsemi.com/pub_link/Collateral/MC74LVXT8051-D.PDF; ComponentLink3Description: Package Specification; ComponentLink3URL: http://www.onsemi.com/pub_link/Collateral/751B-05.PDF
footprint ONSC-SOIC-16-751B-05_V (SOIC, 16-Leads, Body 10x4mm, Pitch 1.27mm)
pins: 1 X4 (io), 2 X6 (io), 3 X (io), 4 X7 (io), 5 X5 (io), 6 ~{EN} (in), 7 NC, 8 GND (power), 9 C (in), 10 B (in), 11 A (in), 12 X3 (io), 13 X0 (io), 14 X1 (io), 15 X2 (io), 16 VCC (power)

## MC74LVXT8051DTR2G
designator U?
Analog Multiplexer / Demultiplexer, High-Performance Silicon-Gate CMOS, 2 to 6 V, -55 to 85 degC, 16-Pin TSSOP, Pb-Free, Tape and Reel; Manufacturer: On Semiconductor; PartNumber: MC74LVXT8051DTR2G; Icc Max (uA): 160; VCC Max (V): 6; VCC Min (V): 2; DatasheetVersion: Rev. 4; PackageVersion: Rev. B, 10/2006; PackageReference: TSSOP-16-948F-01; PackageDescription: 16-Pin Small Outline Package, Body 5 x 4.4 mm, Pitch 0.65 mm; Packing: Tape and Reel; RoHS: TRUE; Mounting Technology: Surface Mount; ComponentLink1Description: Manufacturer URL; ComponentLink1URL: http://www.onsemi.com/; ComponentLink2Description: Datasheet; ComponentLink2URL: http://www.onsemi.com/pub_link/Collateral/MC74LVXT8051-D.PDF; ComponentLink3Description: Package Specification; ComponentLink3URL: http://www.onsemi.com/pub_link/Collateral/948F-01.PDF
footprint ONSC-TSSOP-16-948F-01_V (SOP, 16-Leads, Body 5.1x4.5mm, Pitch 0.65mm)
pins: 1 X4 (io), 2 X6 (io), 3 X (io), 4 X7 (io), 5 X5 (io), 6 ~{EN} (in), 7 NC, 8 GND (power), 9 C (in), 10 B (in), 11 A (in), 12 X3 (io), 13 X0 (io), 14 X1 (io), 15 X2 (io), 16 VCC (power)

## MC74LVXT8051MELG
designator U?
Analog Multiplexer / Demultiplexer, High-Performance Silicon-Gate CMOS, 2 to 6 V, -55 to 85 degC, 16-Pin SOEIAJ, Pb-Free, Tape and Reel; Manufacturer: On Semiconductor; PartNumber: MC74LVXT8051MELG; Icc Max (uA): 160; VCC Max (V): 6; VCC Min (V): 2; DatasheetVersion: Rev. 4; PackageVersion: Rev. A, 10/2005; PackageReference: SOEIAJ-16-966-01; PackageDescription: 16-Pin Small Outline Integrated Circuit, Body 10.2 x 5.275 mm, Pitch 1.27 mm; Supplier 1: Digi-Key; Supplier Part Number 1: MC74LVXT8051MELGOSTR-ND; Supplier 2: Digi-Key; Supplier Part Number 2: MC74LVXT8051MELGOSCT-ND; Supplier 3: Mouser; Supplier Part Number 3: 863-MC74LVXT8051MELG; Packing: Tape and Reel; RoHS: TRUE; Mounting Technology: Surface Mount; ComponentLink1Description: Manufacturer URL; ComponentLink1URL: http://www.onsemi.com/; ComponentLink2Description: Datasheet; ComponentLink2URL: http://www.onsemi.com/pub_link/Collateral/MC74LVXT8051-D.PDF; ComponentLink3Description: Package Specification; ComponentLink3URL: http://www.onsemi.cn/pub_link/Collateral/966-01.PDF
footprint ONSC-SOEIAJ-16-966-01_N (SOIC, 16-Leads, Body 10.5x5.45mm, Pitch 1.27mm, IPC Medium Density)
footprint ONSC-SOEIAJ-16-966-01_L (SOIC, 16-Leads, Body 10.5x5.45mm, Pitch 1.27mm, IPC High Density)
footprint ONSC-SOEIAJ-16-966-01_M (SOIC, 16-Leads, Body 10.5x5.45mm, Pitch 1.27mm, IPC Low Density)
pins: 1 X4 (io), 2 X6 (io), 3 X (io), 4 X7 (io), 5 X5 (io), 6 ~{EN} (in), 7 NC, 8 GND (power), 9 C (in), 10 B (in), 11 A (in), 12 X3 (io), 13 X0 (io), 14 X1 (io), 15 X2 (io), 16 VCC (power)

## MC74LVXT8051MG
designator U?
Analog Multiplexer / Demultiplexer, High-Performance Silicon-Gate CMOS, 2 to 6 V, -55 to 85 degC, 16-Pin SOEIAJ, Pb-Free, Tube; Manufacturer: On Semiconductor; PartNumber: MC74LVXT8051MG; Icc Max (uA): 160; VCC Max (V): 6; VCC Min (V): 2; DatasheetVersion: Rev. 4; PackageVersion: Rev. A, 10/2005; PackageReference: SOEIAJ-16-966-01; PackageDescription: 16-Pin Small Outline Integrated Circuit, Body 10.2 x 5.275 mm, Pitch 1.27 mm; Supplier 1: Digi-Key; Supplier Part Number 1: MC74LVXT8051MG-ND; Supplier 2: Mouser; Supplier Part Number 2: 863-MC74LVXT8051MG; Packing: Tube; RoHS: TRUE; Mounting Technology: Surface Mount; ComponentLink1Description: Manufacturer URL; ComponentLink1URL: http://www.onsemi.com/; ComponentLink2Description: Datasheet; ComponentLink2URL: http://www.onsemi.com/pub_link/Collateral/MC74LVXT8051-D.PDF; ComponentLink3Description: Package Specification; ComponentLink3URL: http://www.onsemi.cn/pub_link/Collateral/966-01.PDF
footprint ONSC-SOEIAJ-16-966-01_N (SOIC, 16-Leads, Body 10.5x5.45mm, Pitch 1.27mm, IPC Medium Density)
footprint ONSC-SOEIAJ-16-966-01_L (SOIC, 16-Leads, Body 10.5x5.45mm, Pitch 1.27mm, IPC High Density)
footprint ONSC-SOEIAJ-16-966-01_M (SOIC, 16-Leads, Body 10.5x5.45mm, Pitch 1.27mm, IPC Low Density)
pins: 1 X4 (io), 2 X6 (io), 3 X (io), 4 X7 (io), 5 X5 (io), 6 ~{EN} (in), 7 NC, 8 GND (power), 9 C (in), 10 B (in), 11 A (in), 12 X3 (io), 13 X0 (io), 14 X1 (io), 15 X2 (io), 16 VCC (power)

## MC74LVXT8053DR2G
designator U?
Analog Multiplexer / Demultiplexer, High-Performance Silicon-Gate CMOS, 2 to 6 V, -55 to 85 degC, 16-Pin SOIC, Pb-Free, Tape and Reel; Manufacturer: On Semiconductor; PartNumber: MC74LVXT8053DR2G; Icc Max (uA): 160; VCC Max (V): 6; VCC Min (V): 2; DatasheetVersion: Rev. 5; PackageVersion: Rev. K, 12/2006; PackageReference: SOIC-16-751B-05; PackageDescription: 16-Pin Small Outline Integrated Circuit, Body 9.9 x 3.9 mm, Pitch 1.27 mm; Supplier 1: Digi-Key; Supplier Part Number 1: MC74LVXT8053DR2G-ND; Supplier 2: Mouser; Supplier Part Number 2: 863-MC74LVXT8053DR2G; Packing: Tape and Reel; RoHS: TRUE; Mounting Technology: Surface Mount; ComponentLink1Description: Manufacturer URL; ComponentLink1URL: http://www.onsemi.com/; ComponentLink2Description: Datasheet; ComponentLink2URL: http://www.onsemi.com/pub_link/Collateral/MC74LVXT8053-D.PDF; ComponentLink3Description: Package Specification; ComponentLink3URL: http://www.onsemi.com/pub_link/Collateral/751B-05.PDF
footprint ONSC-SOIC-16-751B-05_V (SOIC, 16-Leads, Body 10x4mm, Pitch 1.27mm)
pins: 1 Y1 (io), 2 Y0 (io), 3 Z1 (io), 4 Z (io), 5 Z0 (io), 6 ~{EN} (in), 7 NC, 8 GND (power), 9 C (in), 10 B (in), 11 A (in), 12 X0 (io), 13 X1 (io), 14 X (io), 15 Y (io), 16 VCC (power)

## MC74LVXT8053DTR2G
designator U?
Analog Multiplexer / Demultiplexer, High-Performance Silicon-Gate CMOS, 2 to 6 V, -55 to 85 degC, 16-Pin TSSOP, Pb-Free, Tape and Reel; Manufacturer: On Semiconductor; PartNumber: MC74LVXT8053DTR2G; Icc Max (uA): 160; VCC Max (V): 6; VCC Min (V): 2; DatasheetVersion: Rev. 5; PackageVersion: Rev. B, 10/2006; PackageReference: TSSOP-16-948F-01; PackageDescription: 16-Pin Small Outline Package, Body 5 x 4.4 mm, Pitch 0.65 mm; Packing: Tape and Reel; RoHS: TRUE; Mounting Technology: Surface Mount; ComponentLink1Description: Manufacturer URL; ComponentLink1URL: http://www.onsemi.com/; ComponentLink2Description: Datasheet; ComponentLink2URL: http://www.onsemi.com/pub_link/Collateral/MC74LVXT8053-D.PDF; ComponentLink3Description: Package Specification; ComponentLink3URL: http://www.onsemi.com/pub_link/Collateral/948F-01.PDF
footprint ONSC-TSSOP-16-948F-01_V (SOP, 16-Leads, Body 5.1x4.5mm, Pitch 0.65mm)
pins: 1 Y1 (io), 2 Y0 (io), 3 Z1 (io), 4 Z (io), 5 Z0 (io), 6 ~{EN} (in), 7 NC, 8 GND (power), 9 C (in), 10 B (in), 11 A (in), 12 X0 (io), 13 X1 (io), 14 X (io), 15 Y (io), 16 VCC (power)

## MC74LVXT8053MELG
designator U?
Analog Multiplexer / Demultiplexer, High-Performance Silicon-Gate CMOS, 2 to 6 V, -55 to 85 degC, 16-Pin SOEIAJ, Pb-Free, Tape and Reel; Manufacturer: On Semiconductor; PartNumber: MC74LVXT8053MELG; Icc Max (uA): 160; VCC Max (V): 6; VCC Min (V): 2; DatasheetVersion: Rev. 5; PackageVersion: Rev. A, 10/2005; PackageReference: SOEIAJ-16-966-01; PackageDescription: 16-Pin Small Outline Integrated Circuit, Body 10.2 x 5.275 mm, Pitch 1.27 mm; Supplier 1: Digi-Key; Supplier Part Number 1: MC74LVXT8053MELG-ND; Supplier 2: Mouser; Supplier Part Number 2: 863-MC74LVXT8053MELG; Packing: Tape and Reel; RoHS: TRUE; Mounting Technology: Surface Mount; ComponentLink1Description: Manufacturer URL; ComponentLink1URL: http://www.onsemi.com/; ComponentLink2Description: Datasheet; ComponentLink2URL: http://www.onsemi.com/pub_link/Collateral/MC74LVXT8053-D.PDF; ComponentLink3Description: Package Specification; ComponentLink3URL: http://www.onsemi.cn/pub_link/Collateral/966-01.PDF
footprint ONSC-SOEIAJ-16-966-01_N (SOIC, 16-Leads, Body 10.5x5.45mm, Pitch 1.27mm, IPC Medium Density)
footprint ONSC-SOEIAJ-16-966-01_L (SOIC, 16-Leads, Body 10.5x5.45mm, Pitch 1.27mm, IPC High Density)
footprint ONSC-SOEIAJ-16-966-01_M (SOIC, 16-Leads, Body 10.5x5.45mm, Pitch 1.27mm, IPC Low Density)
pins: 1 Y1 (io), 2 Y0 (io), 3 Z1 (io), 4 Z (io), 5 Z0 (io), 6 ~{EN} (in), 7 NC, 8 GND (power), 9 C (in), 10 B (in), 11 A (in), 12 X0 (io), 13 X1 (io), 14 X (io), 15 Y (io), 16 VCC (power)

## MC74LVXT80531MG
designator U?
Analog Multiplexer / Demultiplexer, High-Performance Silicon-Gate CMOS, 2 to 6 V, -55 to 85 degC, 16-Pin SOEIAJ, Pb-Free, Tube; Manufacturer: On Semiconductor; PartNumber: MC74LVXT80531MG; Icc Max (uA): 160; VCC Max (V): 6; VCC Min (V): 2; DatasheetVersion: Rev. 5; PackageVersion: Rev. A, 10/2005; PackageReference: SOEIAJ-16-966-01; PackageDescription: 16-Pin Small Outline Integrated Circuit, Body 10.2 x 5.275 mm, Pitch 1.27 mm; Packing: Tube; RoHS: TRUE; Mounting Technology: Surface Mount; ComponentLink1Description: Manufacturer URL; ComponentLink1URL: http://www.onsemi.com/; ComponentLink2Description: Datasheet; ComponentLink2URL: http://www.onsemi.com/pub_link/Collateral/MC74LVXT8053-D.PDF; ComponentLink3Description: Package Specification; ComponentLink3URL: http://www.onsemi.cn/pub_link/Collateral/966-01.PDF
footprint ONSC-SOEIAJ-16-966-01_N (SOIC, 16-Leads, Body 10.5x5.45mm, Pitch 1.27mm, IPC Medium Density)
footprint ONSC-SOEIAJ-16-966-01_L (SOIC, 16-Leads, Body 10.5x5.45mm, Pitch 1.27mm, IPC High Density)
footprint ONSC-SOEIAJ-16-966-01_M (SOIC, 16-Leads, Body 10.5x5.45mm, Pitch 1.27mm, IPC Low Density)
pins: 1 Y1 (io), 2 Y0 (io), 3 Z1 (io), 4 Z (io), 5 Z0 (io), 6 ~{EN} (in), 7 NC, 8 GND (power), 9 C (in), 10 B (in), 11 A (in), 12 X0 (io), 13 X1 (io), 14 X (io), 15 Y (io), 16 VCC (power)

## MC74VHC1G66DFT1G
designator U?
SPST (NO) Normally Open Analog Switch, 2 to 5.5 V, -55 to 125 degC, 5-Pin SC-88A, Pb-Free, Tape and Reel; Manufacturer: On Semiconductor; PartNumber: MC74VHC1G66DFT1G; Icc Max (uA): 40; VCC Max (V): 5.5; VCC Min (V): 2; DatasheetVersion: Rev. 15; PackageVersion: Rev. L, 01/2013; PackageReference: SC-88A-5-419A-02; PackageDescription: 5-Pin Small Outline Transistor, Body 2 x 1.25 mm, Pitch 0.65 mm; Supplier 1: Digi-Key; Supplier Part Number 1: MC74VHC1G66DFT1GOSTR-ND; Supplier 2: Digi-Key; Supplier Part Number 2: MC74VHC1G66DFT1GOSCT-ND; Supplier 3: Digi-Key; Supplier Part Number 3: MC74VHC1G66DFT1GOSDKR-ND; Supplier 4: Newark; Supplier Part Number 4: 67H6769; Supplier 5: Mouser; Supplier Part Number 5: 863-MC74VHC1G66DFT1G; Packing: Tape and Reel; RoHS: TRUE; Mounting Technology: Surface Mount; ComponentLink1Description: Manufacturer URL; ComponentLink1URL: http://www.onsemi.com/; ComponentLink2Description: Datasheet; ComponentLink2URL: http://www.onsemi.com/pub_link/Collateral/MC74VHC1G66-D.PDF; ComponentLink3Description: Package Specification; ComponentLink3URL: http://www.onsemi.cn/pub_link/Collateral/419A-02.PDF
footprint ONSC-SC-88A-5-419A-02_V (SOT23, 5-Leads, Body 2.2x1.35mm, Pitch 0.65mm)
pins: 1 IN/OUT XA, 2 OUT/IN YA, 3 GND (power), 4 ON/OFF CTRL (in), 5 VCC (power)

## MC74VHC1G66DFT2G
designator U?
SPST (NO) Normally Open Analog Switch, 2 to 5.5 V, -55 to 125 degC, 5-Pin SC-88A, Pb-Free, Tape and Reel; Manufacturer: On Semiconductor; PartNumber: MC74VHC1G66DFT2G; Icc Max (uA): 40; VCC Max (V): 5.5; VCC Min (V): 2; DatasheetVersion: Rev. 15; PackageVersion: Rev. L, 01/2013; PackageReference: SC-88A-5-419A-02; PackageDescription: 5-Pin Small Outline Transistor, Body 2 x 1.25 mm, Pitch 0.65 mm; Supplier 1: Digi-Key; Supplier Part Number 1: MC74VHC1G66DFT2GOSTR-ND; Supplier 2: Digi-Key; Supplier Part Number 2: MC74VHC1G66DFT2GOSCT-ND; Supplier 3: Digi-Key; Supplier Part Number 3: MC74VHC1G66DFT2GOSDKR-ND; Supplier 4: Newark; Supplier Part Number 4: 67H6770; Supplier 5: Mouser; Supplier Part Number 5: 863-MC74VHC1G66DFT2G; Packing: Tape and Reel; RoHS: TRUE; Mounting Technology: Surface Mount; ComponentLink1Description: Manufacturer URL; ComponentLink1URL: http://www.onsemi.com/; ComponentLink2Description: Datasheet; ComponentLink2URL: http://www.onsemi.com/pub_link/Collateral/MC74VHC1G66-D.PDF; ComponentLink3Description: Package Specification; ComponentLink3URL: http://www.onsemi.cn/pub_link/Collateral/419A-02.PDF
footprint ONSC-SC-88A-5-419A-02_V (SOT23, 5-Leads, Body 2.2x1.35mm, Pitch 0.65mm)
pins: 1 IN/OUT XA, 2 OUT/IN YA, 3 GND (power), 4 ON/OFF CTRL (in), 5 VCC (power)

## MC74VHC1G66DTT1G
designator U?
SPST (NO) Normally Open Analog Switch, 2 to 5.5 V, -55 to 125 degC, 5-Pin TSOP, Pb-Free, Tape and Reel; Manufacturer: On Semiconductor; PartNumber: MC74VHC1G66DTT1G; Icc Max (uA): 40; VCC Max (V): 5.5; VCC Min (V): 2; DatasheetVersion: Rev. 15; PackageVersion: Rev. K, 04/2013; PackageReference: TSOP-5-483-02; PackageDescription: 5-Pin Small Outline Package, Body 3 x 1.5 mm, Pitch 0.95 mm; Supplier 1: Digi-Key; Supplier Part Number 1: MC74VHC1G66DTT1GOSTR-ND; Supplier 2: Digi-Key; Supplier Part Number 2: MC74VHC1G66DTT1GOSCT-ND; Supplier 3: Digi-Key; Supplier Part Number 3: MC74VHC1G66DTT1GOSDKR-ND; Supplier 4: Farnell; Supplier Part Number 4: 1705948; Supplier 5: Newark; Supplier Part Number 5: 45J1390; Supplier 6: Newark; Supplier Part Number 6: 29X6075; Supplier 7: Mouser; Supplier Part Number 7: 863-MC74VHC1G66DTT1G; Packing: Tape and Reel; RoHS: TRUE; Mounting Technology: Surface Mount; ComponentLink1Description: Manufacturer URL; ComponentLink1URL: http://www.onsemi.com/; ComponentLink2Description: Datasheet; ComponentLink2URL: http://www.onsemi.com/pub_link/Collateral/MC74VHC1G66-D.PDF; ComponentLink3Description: Package Specification; ComponentLink3URL: http://www.onsemi.com/pub_link/Collateral/483.PDF
footprint ONSC-TSOP-5-483-02_V (SOP, 5-Leads, Body 3x1.5mm, Pitch 0.95mm)
pins: 1 IN/OUT XA, 2 OUT/IN YA, 3 GND (power), 4 ON/OFF CTRL (in), 5 VCC (power)

## MC74VHC1GT66DFT2
designator U?
SPST (NO) Normally Open Analog Switch, 2 to 5.5 V, -55 to 125 degC, 5-Pin SC-88A, Tape and Reel; Manufacturer: On Semiconductor; PartNumber: MC74VHC1GT66DFT2; Icc Max (uA): 40; VCC Max (V): 5.5; VCC Min (V): 2; DatasheetVersion: Rev. 15; PackageVersion: Rev. L, 01/2013; PackageReference: SC-88A-5-419A-02; PackageDescription: 5-Pin Small Outline Transistor, Body 2 x 1.25 mm, Pitch 0.65 mm; Supplier 1: Mouser; Supplier Part Number 1: 863-MC74VHC1GT66DFT2; Packing: Tape and Reel; RoHS: FALSE; Mounting Technology: Surface Mount; ComponentLink1Description: Manufacturer URL; ComponentLink1URL: http://www.onsemi.com/; ComponentLink2Description: Datasheet; ComponentLink2URL: http://www.onsemi.com/pub_link/Collateral/MC74VHC1GT66-D.PDF; ComponentLink3Description: Package Specification; ComponentLink3URL: http://www.onsemi.cn/pub_link/Collateral/419A-02.PDF
footprint ONSC-SC-88A-5-419A-02_V (SOT23, 5-Leads, Body 2.2x1.35mm, Pitch 0.65mm)
pins: 1 IN/OUT XA, 2 OUT/IN YA, 3 GND (power), 4 ON/OFF CTRL (in), 5 VCC (power)